# Altium integrated library HARTING DIN 41612 Type Q.IntLib: 23 symbols
Pins are listed as number, name and electrical type; pins without a type are passive.

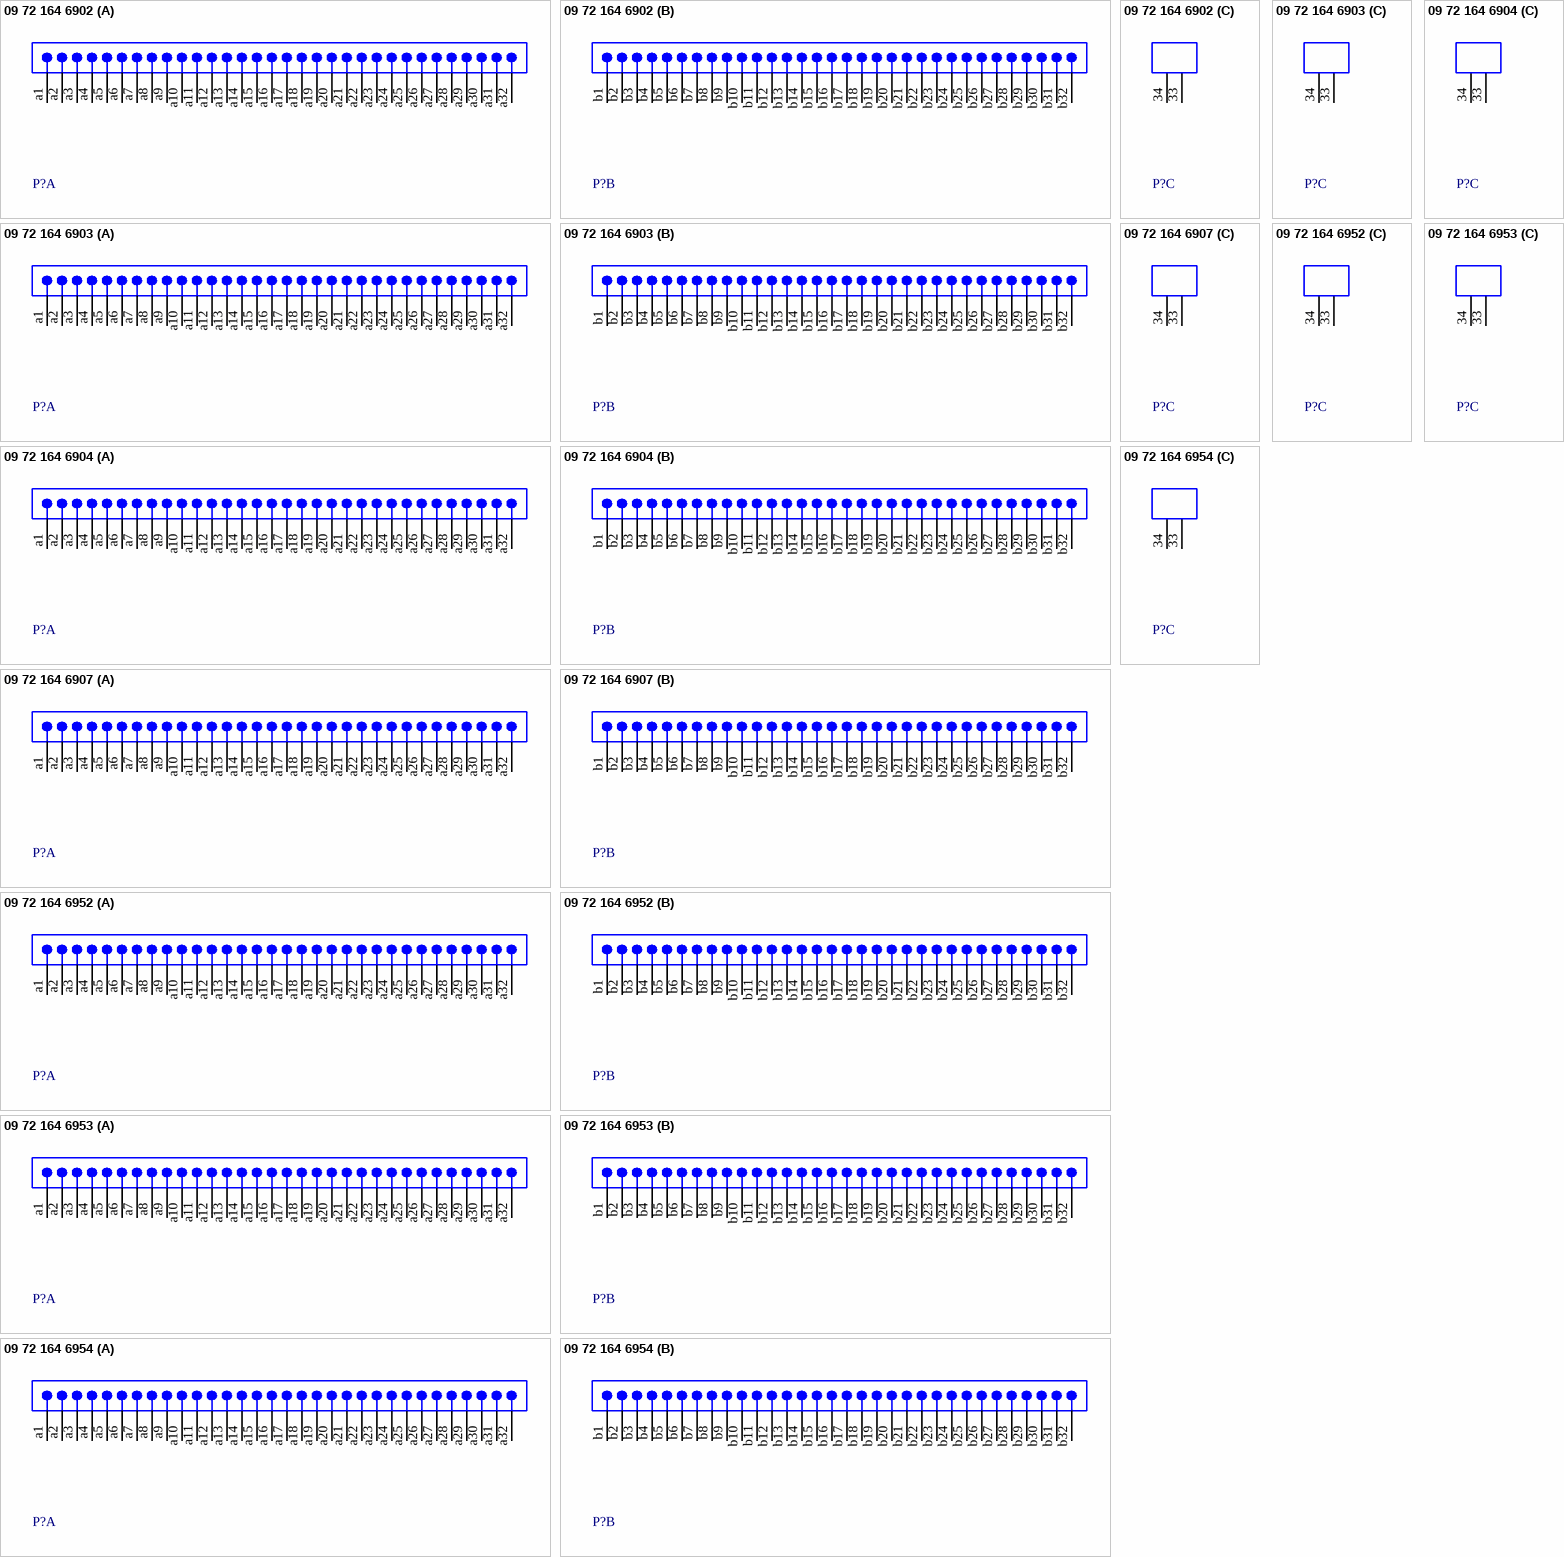
[diagram p0: symbols 09 72 164 6902 to 09 72 164 6954]

## 09 72 164 6902
designator P?
Eurocard DIN 41612, Type Q, 64 Position, Rows a+b, Performance level 2, Male, Lead 2.5 mm, Pitch 2.54 mm; DrillSize: Corresponds to nominal value.; Published: 6-Oct-2005; DatasheetDocument: 02-Jun-2003; PackageDocument: 18-May-2001; PackageReference: 0972164x902; Publisher: Altium Limited; ComponentLink1Description: Manufacturer Link; ComponentLink1URL: http://www.harting.com/; ComponentLink2Description: Packaging Specification; ComponentLink2URL: http://www.harkis.harting.com/_gds/pdf/TB_0972164x902_BL01_R29790.pdf
footprint 0972164x902 (Connector; DIN 41612, Type Q, Thru-Hole; Rows a+b, 64 Position; Vertical)
signal-integrity model DIN 41612
part A pins: a1, a2, a3, a4, a5, a6, a7, a8, a9, a10, a11, a12, a13, a14, a15, a16, a17, a18, a19, a20, a21, a22, a23, a24, a25, a26, a27, a28, a29, a30, a31, a32
part B pins: b1, b2, b3, b4, b5, b6, b7, b8, b9, b10, b11, b12, b13, b14, b15, b16, b17, b18, b19, b20, b21, b22, b23, b24, b25, b26, b27, b28, b29, b30, b31, b32
part C pins: 33 MH1 "Mounting Fixture", 34 MH2 "Mounting Fixture"

## 09 72 164 6903
designator P?
Eurocard DIN 41612, Type Q, 64 Position, Rows a+b, Performance level 2, Male, Lead 4.0 mm, Pitch 2.54 mm; DrillSize: Corresponds to nominal value.; Published: 6-Oct-2005; DatasheetDocument: 02-Jun-2003; PackageDocument: 18-May-2001; PackageReference: 0972164x903; Publisher: Altium Limited; ComponentLink1Description: Manufacturer Link; ComponentLink1URL: http://www.harting.com/; ComponentLink2Description: Packaging Specification; ComponentLink2URL: http://www.harkis.harting.com/_gds/pdf/TB_0972164x903_BL01_R29790.pdf
footprint 0972164x903 (Connector; DIN 41612, Type Q, Thru-Hole; Rows a+b, 64 Position; Vertical)
signal-integrity model DIN 41612
part A pins: a1, a2, a3, a4, a5, a6, a7, a8, a9, a10, a11, a12, a13, a14, a15, a16, a17, a18, a19, a20, a21, a22, a23, a24, a25, a26, a27, a28, a29, a30, a31, a32
part B pins: b1, b2, b3, b4, b5, b6, b7, b8, b9, b10, b11, b12, b13, b14, b15, b16, b17, b18, b19, b20, b21, b22, b23, b24, b25, b26, b27, b28, b29, b30, b31, b32
part C pins: 33 MH1 "Mounting Fixture", 34 MH2 "Mounting Fixture"

## 09 72 164 6904
designator P?
Eurocard DIN 41612, Type Q, 64 Position, Rows a+b, Performance level 2, Male, Lead 5.0 mm, Pitch 2.54 mm; DrillSize: Corresponds to nominal value.; Published: 6-Oct-2005; DatasheetDocument: 03-Jun-2003; PackageDocument: 23-May-2001; PackageReference: 0972164x904; Publisher: Altium Limited; ComponentLink1Description: Manufacturer Link; ComponentLink1URL: http://www.harting.com/; ComponentLink2Description: Packaging Specification; ComponentLink2URL: http://www.harkis.harting.com/_gds/pdf/TB_0972164x904_BL01_R29794.pdf
footprint 0972164x904 (Connector; DIN 41612, Type Q, Thru-Hole; Rows a+b, 64 Position; Vertical)
signal-integrity model DIN 41612
part A pins: a1, a2, a3, a4, a5, a6, a7, a8, a9, a10, a11, a12, a13, a14, a15, a16, a17, a18, a19, a20, a21, a22, a23, a24, a25, a26, a27, a28, a29, a30, a31, a32
part B pins: b1, b2, b3, b4, b5, b6, b7, b8, b9, b10, b11, b12, b13, b14, b15, b16, b17, b18, b19, b20, b21, b22, b23, b24, b25, b26, b27, b28, b29, b30, b31, b32
part C pins: 33 MH1 "Mounting Fixture", 34 MH2 "Mounting Fixture"

## 09 72 164 6907
designator P?
Eurocard DIN 41612, Type Q, 64 Position, Rows a+b, Performance level 2, Male, Lead 13.0 mm, Pitch 2.54 mm; DrillSize: Corresponds to nominal value.; Published: 6-Oct-2005; DatasheetDocument: 02-Jun-2003; PackageDocument: 17-May-2001; PackageReference: 0972164x907; Publisher: Altium Limited; ComponentLink1Description: Manufacturer Link; ComponentLink1URL: http://www.harting.com/; ComponentLink2Description: Packaging Specification; ComponentLink2URL: http://www.harkis.harting.com/_gds/pdf/TB_0972164x907_BL01_R29790.pdf
footprint 0972164x907 (Connector; DIN 41612, Type Q, Thru-Hole; Rows a+b, 64 Position; Vertical)
signal-integrity model DIN 41612
part A pins: a1, a2, a3, a4, a5, a6, a7, a8, a9, a10, a11, a12, a13, a14, a15, a16, a17, a18, a19, a20, a21, a22, a23, a24, a25, a26, a27, a28, a29, a30, a31, a32
part B pins: b1, b2, b3, b4, b5, b6, b7, b8, b9, b10, b11, b12, b13, b14, b15, b16, b17, b18, b19, b20, b21, b22, b23, b24, b25, b26, b27, b28, b29, b30, b31, b32
part C pins: 33 MH1 "Mounting Fixture", 34 MH2 "Mounting Fixture"

## 09 72 164 6952
designator P?
Eurocard DIN 41612, Type Q, 62+2 Position, Rows a+b, Performance level 2, Male, Lead 2.5 mm, Pitch 2.54 mm; Note: Two leading contacts at positions a1 & a32.; DrillSize: Corresponds to nominal value.; Published: 6-Oct-2005; DatasheetDocument: 02-Jun-2003; PackageReference: 0972164x952; Publisher: Altium Limited; ComponentLink1Description: Manufacturer Link; ComponentLink1URL: http://www.harting.com/
footprint 0972164x952 (Connector; DIN 41612, Type Q, Thru-Hole; Rows a+b, 64 Position; Vertical)
signal-integrity model DIN 41612
part A pins: a1, a2, a3, a4, a5, a6, a7, a8, a9, a10, a11, a12, a13, a14, a15, a16, a17, a18, a19, a20, a21, a22, a23, a24, a25, a26, a27, a28, a29, a30, a31, a32
part B pins: b1, b2, b3, b4, b5, b6, b7, b8, b9, b10, b11, b12, b13, b14, b15, b16, b17, b18, b19, b20, b21, b22, b23, b24, b25, b26, b27, b28, b29, b30, b31, b32
part C pins: 33 MH1 "Mounting Fixture", 34 MH2 "Mounting Fixture"

## 09 72 164 6953
designator P?
Eurocard DIN 41612, Type Q, 62+2 Position, Rows a+b, Performance level 2, Male, Lead 4.0 mm, Pitch 2.54 mm; Note: Two leading contacts at positions a1 & a32.; DrillSize: Corresponds to nominal value.; Published: 6-Oct-2005; DatasheetDocument: 02-Jun-2003; PackageReference: 0972164x953; Publisher: Altium Limited; ComponentLink1Description: Manufacturer Link; ComponentLink1URL: http://www.harting.com/
footprint 0972164x953 (Connector; DIN 41612, Type Q, Thru-Hole; Rows a+b, 64 Position; Vertical)
signal-integrity model DIN 41612
part A pins: a1, a2, a3, a4, a5, a6, a7, a8, a9, a10, a11, a12, a13, a14, a15, a16, a17, a18, a19, a20, a21, a22, a23, a24, a25, a26, a27, a28, a29, a30, a31, a32
part B pins: b1, b2, b3, b4, b5, b6, b7, b8, b9, b10, b11, b12, b13, b14, b15, b16, b17, b18, b19, b20, b21, b22, b23, b24, b25, b26, b27, b28, b29, b30, b31, b32
part C pins: 33 MH1 "Mounting Fixture", 34 MH2 "Mounting Fixture"

## 09 72 164 6954
designator P?
Eurocard DIN 41612, Type Q, 62+2 Position, Rows a+b, Performance level 2, Male, Lead 5.0 mm, Pitch 2.54 mm; Note: Two leading contacts at positions a1 & a32.; DrillSize: Corresponds to nominal value.; Published: 6-Oct-2005; DatasheetDocument: 03-Jun-2003; PackageReference: 0972164x954; Publisher: Altium Limited; ComponentLink1Description: Manufacturer Link; ComponentLink1URL: http://www.harting.com/
footprint 0972164x954 (Connector; DIN 41612, Type Q, Thru-Hole; Rows a+b, 64 Position; Vertical)
signal-integrity model DIN 41612
part A pins: a1, a2, a3, a4, a5, a6, a7, a8, a9, a10, a11, a12, a13, a14, a15, a16, a17, a18, a19, a20, a21, a22, a23, a24, a25, a26, a27, a28, a29, a30, a31, a32
part B pins: b1, b2, b3, b4, b5, b6, b7, b8, b9, b10, b11, b12, b13, b14, b15, b16, b17, b18, b19, b20, b21, b22, b23, b24, b25, b26, b27, b28, b29, b30, b31, b32
part C pins: 33 MH1 "Mounting Fixture", 34 MH2 "Mounting Fixture"

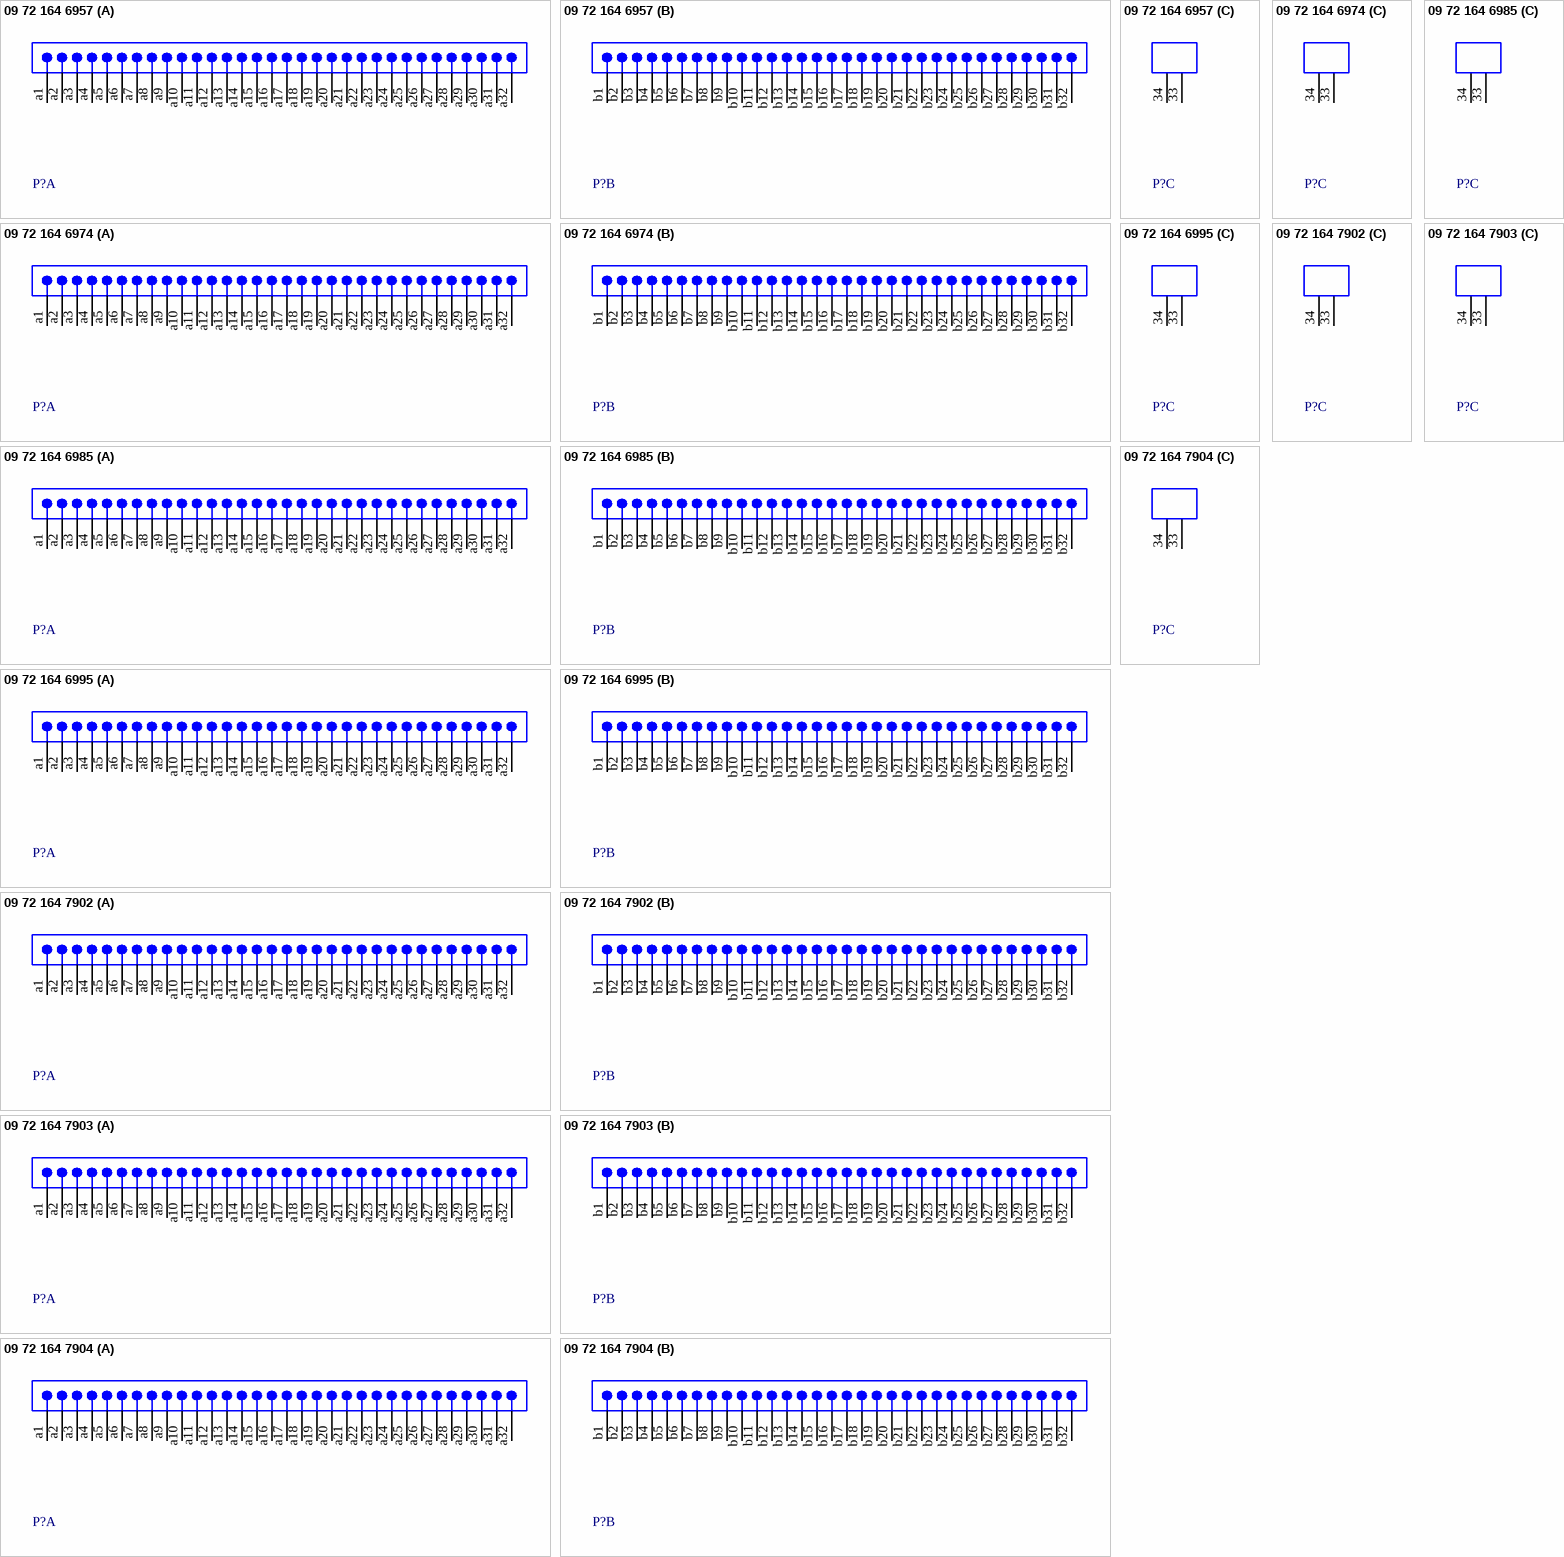
[diagram p1: symbols 09 72 164 6957 to 09 72 164 7904]

## 09 72 164 6957
designator P?
Eurocard DIN 41612, Type Q, 62+2 Position, Rows a+b, Performance level 2, Male, Lead 13.0 mm, Pitch 2.54 mm; Note: Two leading contacts at positions a1 & a32.; DrillSize: Corresponds to nominal value.; Published: 6-Oct-2005; DatasheetDocument: 02-Jun-2003; PackageReference: 0972164x957; Publisher: Altium Limited; ComponentLink1Description: Manufacturer Link; ComponentLink1URL: http://www.harting.com/
footprint 0972164x957 (Connector; DIN 41612, Type Q, Thru-Hole; Rows a+b, 64 Position; Vertical)
signal-integrity model DIN 41612
part A pins: a1, a2, a3, a4, a5, a6, a7, a8, a9, a10, a11, a12, a13, a14, a15, a16, a17, a18, a19, a20, a21, a22, a23, a24, a25, a26, a27, a28, a29, a30, a31, a32
part B pins: b1, b2, b3, b4, b5, b6, b7, b8, b9, b10, b11, b12, b13, b14, b15, b16, b17, b18, b19, b20, b21, b22, b23, b24, b25, b26, b27, b28, b29, b30, b31, b32
part C pins: 33 MH1 "Mounting Fixture", 34 MH2 "Mounting Fixture"

## 09 72 164 6974
designator P?
Eurocard DIN 41612, Type Q, 64 Position, Rows a+b, Performance level 2, Male, Lead 13.0 mm, Pitch 2.54 mm; DrillSize: Corresponds to nominal value.; Published: 6-Oct-2005; DatasheetDocument: 03-Jun-2003; PackageDocument: 23-May-2001; PackageReference: 0972164x974; Publisher: Altium Limited; ComponentLink1Description: Manufacturer Link; ComponentLink1URL: http://www.harting.com/; ComponentLink2Description: Packaging Specification; ComponentLink2URL: http://www.harkis.harting.com/_gds/pdf/TB_0972164x974_BL01_R29794.pdf
footprint 0972164x974 (Connector; DIN 41612, Type Q, Thru-Hole; Rows a+b, 64 Position; Vertical)
signal-integrity model DIN 41612
part A pins: a1, a2, a3, a4, a5, a6, a7, a8, a9, a10, a11, a12, a13, a14, a15, a16, a17, a18, a19, a20, a21, a22, a23, a24, a25, a26, a27, a28, a29, a30, a31, a32
part B pins: b1, b2, b3, b4, b5, b6, b7, b8, b9, b10, b11, b12, b13, b14, b15, b16, b17, b18, b19, b20, b21, b22, b23, b24, b25, b26, b27, b28, b29, b30, b31, b32
part C pins: 33 MH1 "Mounting Fixture", 34 MH2 "Mounting Fixture"

## 09 72 164 6985
designator P?
Eurocard DIN 41612, Type Q, 64 Position, Rows a+b, Performance level 2, Male, Lead 13.0 mm, Pitch 2.54 mm; DrillSize: Corresponds to nominal value.; Published: 6-Oct-2005; DatasheetDocument: 03-Jun-2003; PackageDocument: 06-Aug-2002; PackageReference: 0972164x985; Publisher: Altium Limited; ComponentLink1Description: Manufacturer Link; ComponentLink1URL: http://www.harting.com/; ComponentLink2Description: Packaging Specification; ComponentLink2URL: http://www.harkis.harting.com/_gds/pdf/TB_0972164x985_BL01_R31169.pdf
footprint 0972164x985 (Connector; DIN 41612, Type Q, Thru-Hole; Rows a+b, 64 Position; Vertical)
signal-integrity model DIN 41612
part A pins: a1, a2, a3, a4, a5, a6, a7, a8, a9, a10, a11, a12, a13, a14, a15, a16, a17, a18, a19, a20, a21, a22, a23, a24, a25, a26, a27, a28, a29, a30, a31, a32
part B pins: b1, b2, b3, b4, b5, b6, b7, b8, b9, b10, b11, b12, b13, b14, b15, b16, b17, b18, b19, b20, b21, b22, b23, b24, b25, b26, b27, b28, b29, b30, b31, b32
part C pins: 33 MH1 "Mounting Fixture", 34 MH2 "Mounting Fixture"

## 09 72 164 6995
designator P?
Eurocard DIN 41612, Type Q, 62+2 Position, Rows a+b, Performance level 2, Male, Lead 13.0 mm, Pitch 2.54 mm; Note: Two leading contacts at positions a1 & a32.; DrillSize: Corresponds to nominal value.; Published: 6-Oct-2005; DatasheetDocument: 03-Jun-2003; PackageReference: 0972164x995; Publisher: Altium Limited; ComponentLink1Description: Manufacturer Link; ComponentLink1URL: http://www.harting.com/
footprint 0972164x995 (Connector; DIN 41612, Type Q, Thru-Hole; Rows a+b, 64 Position; Vertical)
signal-integrity model DIN 41612
part A pins: a1, a2, a3, a4, a5, a6, a7, a8, a9, a10, a11, a12, a13, a14, a15, a16, a17, a18, a19, a20, a21, a22, a23, a24, a25, a26, a27, a28, a29, a30, a31, a32
part B pins: b1, b2, b3, b4, b5, b6, b7, b8, b9, b10, b11, b12, b13, b14, b15, b16, b17, b18, b19, b20, b21, b22, b23, b24, b25, b26, b27, b28, b29, b30, b31, b32
part C pins: 33 MH1 "Mounting Fixture", 34 MH2 "Mounting Fixture"

## 09 72 164 7902
designator P?
Eurocard DIN 41612, Type Q, 64 Position, Rows a+b, Performance level 3, Male, Lead 2.5 mm, Pitch 2.54 mm; DrillSize: Corresponds to nominal value.; Published: 6-Oct-2005; DatasheetDocument: 02-Jun-2003; PackageDocument: 18-May-2001; PackageReference: 0972164x902; Publisher: Altium Limited; ComponentLink1Description: Manufacturer Link; ComponentLink1URL: http://www.harting.com/; ComponentLink2Description: Packaging Specification; ComponentLink2URL: http://www.harkis.harting.com/_gds/pdf/TB_0972164x902_BL01_R29790.pdf
footprint 0972164x902 (Connector; DIN 41612, Type Q, Thru-Hole; Rows a+b, 64 Position; Vertical)
signal-integrity model DIN 41612
part A pins: a1, a2, a3, a4, a5, a6, a7, a8, a9, a10, a11, a12, a13, a14, a15, a16, a17, a18, a19, a20, a21, a22, a23, a24, a25, a26, a27, a28, a29, a30, a31, a32
part B pins: b1, b2, b3, b4, b5, b6, b7, b8, b9, b10, b11, b12, b13, b14, b15, b16, b17, b18, b19, b20, b21, b22, b23, b24, b25, b26, b27, b28, b29, b30, b31, b32
part C pins: 33 MH1 "Mounting Fixture", 34 MH2 "Mounting Fixture"

## 09 72 164 7903
designator P?
Eurocard DIN 41612, Type Q, 64 Position, Rows a+b, Performance level 3, Male, Lead 4.0 mm, Pitch 2.54 mm; DrillSize: Corresponds to nominal value.; Published: 6-Oct-2005; DatasheetDocument: 02-Jun-2003; PackageDocument: 18-May-2001; PackageReference: 0972164x903; Publisher: Altium Limited; ComponentLink1Description: Manufacturer Link; ComponentLink1URL: http://www.harting.com/; ComponentLink2Description: Packaging Specification; ComponentLink2URL: http://www.harkis.harting.com/_gds/pdf/TB_0972164x903_BL01_R29790.pdf
footprint 0972164x903 (Connector; DIN 41612, Type Q, Thru-Hole; Rows a+b, 64 Position; Vertical)
signal-integrity model DIN 41612
part A pins: a1, a2, a3, a4, a5, a6, a7, a8, a9, a10, a11, a12, a13, a14, a15, a16, a17, a18, a19, a20, a21, a22, a23, a24, a25, a26, a27, a28, a29, a30, a31, a32
part B pins: b1, b2, b3, b4, b5, b6, b7, b8, b9, b10, b11, b12, b13, b14, b15, b16, b17, b18, b19, b20, b21, b22, b23, b24, b25, b26, b27, b28, b29, b30, b31, b32
part C pins: 33 MH1 "Mounting Fixture", 34 MH2 "Mounting Fixture"

## 09 72 164 7904
designator P?
Eurocard DIN 41612, Type Q, 64 Position, Rows a+b, Performance level 3, Male, Lead 5.0 mm, Pitch 2.54 mm; DrillSize: Corresponds to nominal value.; Published: 6-Oct-2005; DatasheetDocument: 03-Jun-2003; PackageDocument: 23-May-2001; PackageReference: 0972164x904; Publisher: Altium Limited; ComponentLink1Description: Manufacturer Link; ComponentLink1URL: http://www.harting.com/; ComponentLink2Description: Packaging Specification; ComponentLink2URL: http://www.harkis.harting.com/_gds/pdf/TB_0972164x904_BL01_R29794.pdf
footprint 0972164x904 (Connector; DIN 41612, Type Q, Thru-Hole; Rows a+b, 64 Position; Vertical)
signal-integrity model DIN 41612
part A pins: a1, a2, a3, a4, a5, a6, a7, a8, a9, a10, a11, a12, a13, a14, a15, a16, a17, a18, a19, a20, a21, a22, a23, a24, a25, a26, a27, a28, a29, a30, a31, a32
part B pins: b1, b2, b3, b4, b5, b6, b7, b8, b9, b10, b11, b12, b13, b14, b15, b16, b17, b18, b19, b20, b21, b22, b23, b24, b25, b26, b27, b28, b29, b30, b31, b32
part C pins: 33 MH1 "Mounting Fixture", 34 MH2 "Mounting Fixture"

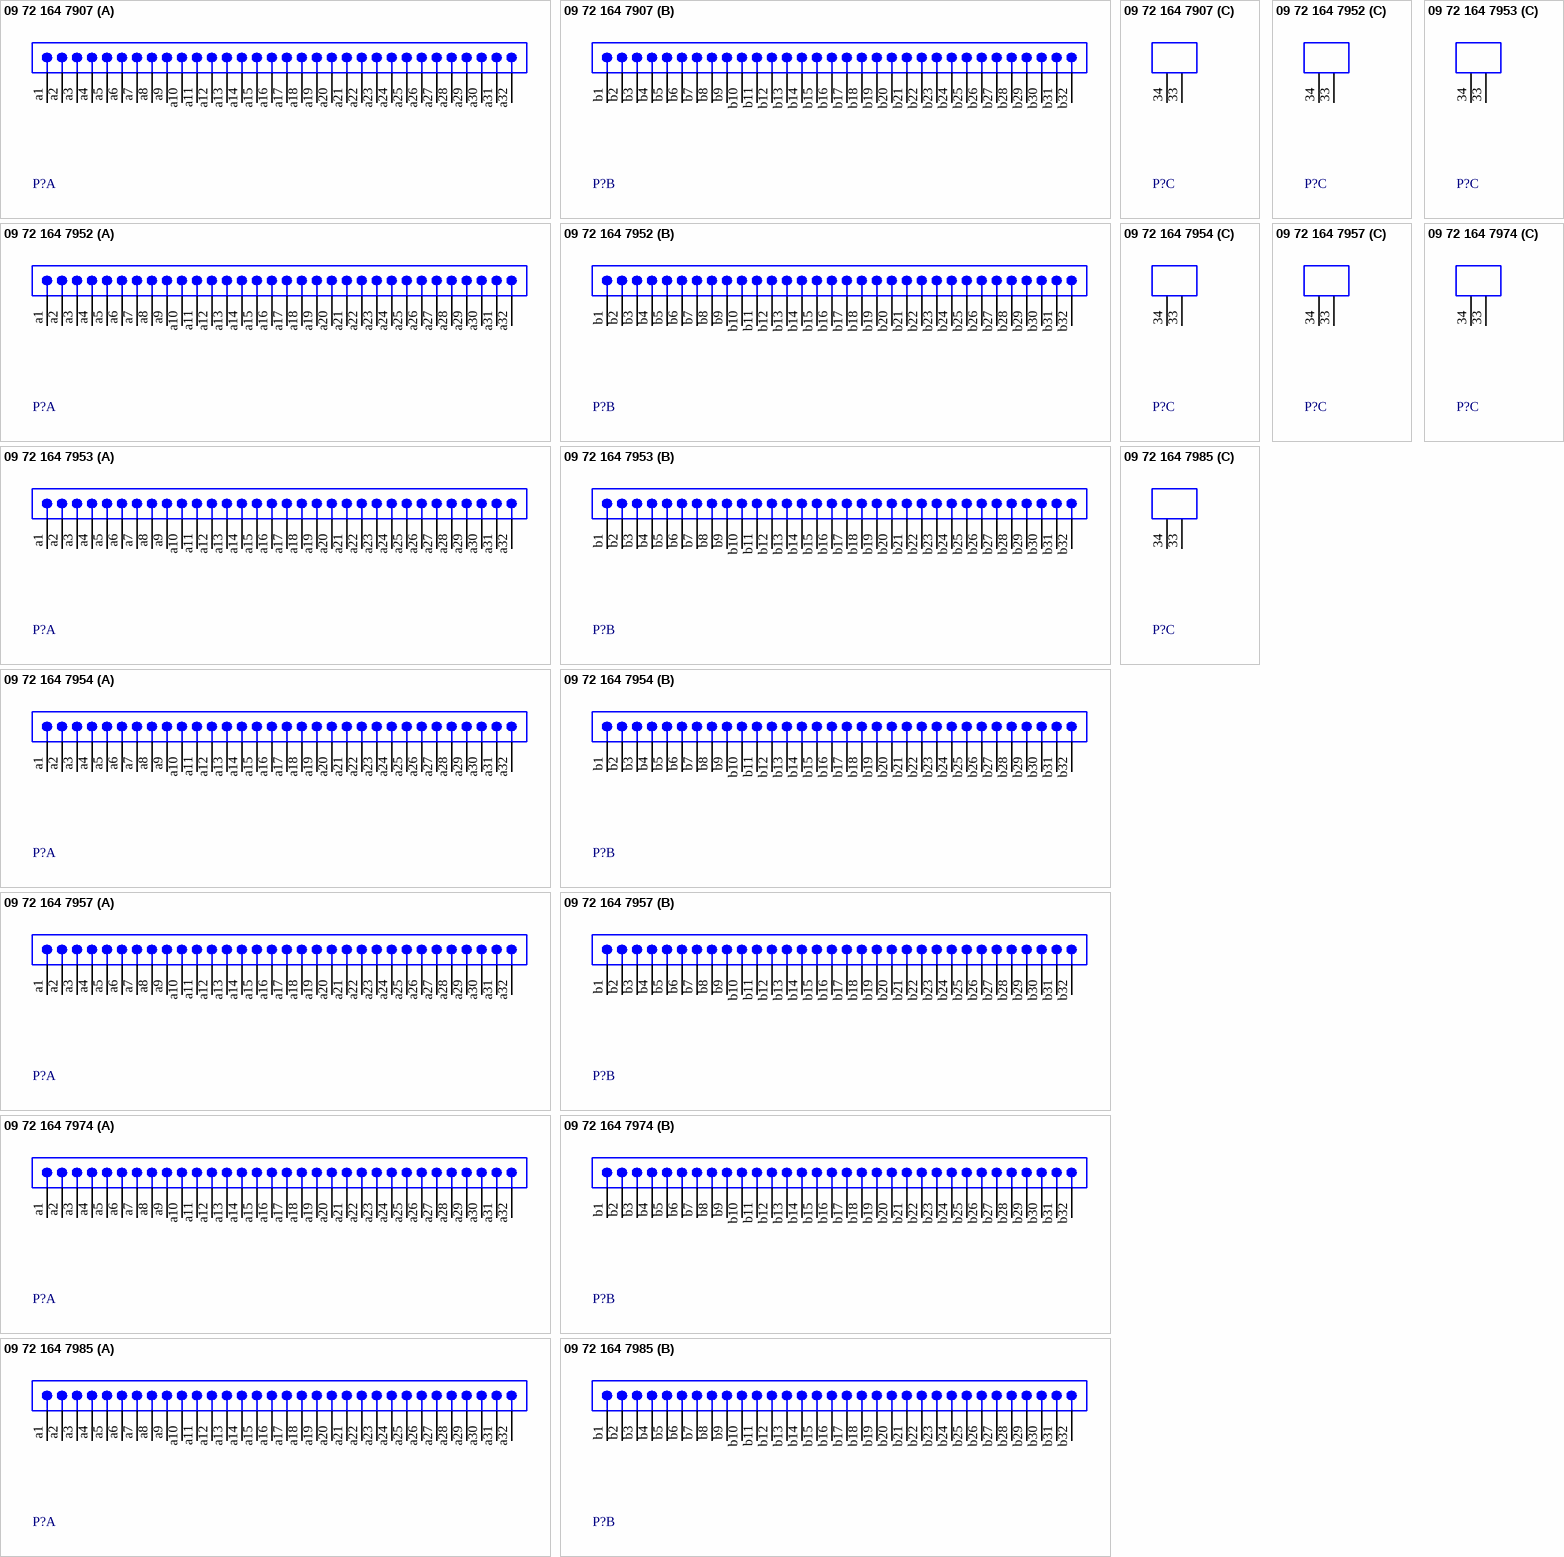
[diagram p2: symbols 09 72 164 7907 to 09 72 164 7985]

## 09 72 164 7907
designator P?
Eurocard DIN 41612, Type Q, 64 Position, Rows a+b, Performance level 3, Male, Lead 13.0 mm, Pitch 2.54 mm; DrillSize: Corresponds to nominal value.; Published: 6-Oct-2005; DatasheetDocument: 02-Jun-2003; PackageDocument: 17-May-2001; PackageReference: 0972164x907; Publisher: Altium Limited; ComponentLink1Description: Manufacturer Link; ComponentLink1URL: http://www.harting.com/; ComponentLink2Description: Packaging Specification; ComponentLink2URL: http://www.harkis.harting.com/_gds/pdf/TB_0972164x907_BL01_R29790.pdf
footprint 0972164x907 (Connector; DIN 41612, Type Q, Thru-Hole; Rows a+b, 64 Position; Vertical)
signal-integrity model DIN 41612
part A pins: a1, a2, a3, a4, a5, a6, a7, a8, a9, a10, a11, a12, a13, a14, a15, a16, a17, a18, a19, a20, a21, a22, a23, a24, a25, a26, a27, a28, a29, a30, a31, a32
part B pins: b1, b2, b3, b4, b5, b6, b7, b8, b9, b10, b11, b12, b13, b14, b15, b16, b17, b18, b19, b20, b21, b22, b23, b24, b25, b26, b27, b28, b29, b30, b31, b32
part C pins: 33 MH1 "Mounting Fixture", 34 MH2 "Mounting Fixture"

## 09 72 164 7952
designator P?
Eurocard DIN 41612, Type Q, 62+2 Position, Rows a+b, Performance level 3, Male, Lead 2.5 mm, Pitch 2.54 mm; Note: Two leading contacts at positions a1 & a32.; DrillSize: Corresponds to nominal value.; Published: 6-Oct-2005; DatasheetDocument: 02-Jun-2003; PackageReference: 0972164x952; Publisher: Altium Limited; ComponentLink1Description: Manufacturer Link; ComponentLink1URL: http://www.harting.com/
footprint 0972164x952 (Connector; DIN 41612, Type Q, Thru-Hole; Rows a+b, 64 Position; Vertical)
signal-integrity model DIN 41612
part A pins: a1, a2, a3, a4, a5, a6, a7, a8, a9, a10, a11, a12, a13, a14, a15, a16, a17, a18, a19, a20, a21, a22, a23, a24, a25, a26, a27, a28, a29, a30, a31, a32
part B pins: b1, b2, b3, b4, b5, b6, b7, b8, b9, b10, b11, b12, b13, b14, b15, b16, b17, b18, b19, b20, b21, b22, b23, b24, b25, b26, b27, b28, b29, b30, b31, b32
part C pins: 33 MH1 "Mounting Fixture", 34 MH2 "Mounting Fixture"

## 09 72 164 7953
designator P?
Eurocard DIN 41612, Type Q, 62+2 Position, Rows a+b, Performance level 3, Male, Lead 4.0 mm, Pitch 2.54 mm; Note: Two leading contacts at positions a1 & a32.; DrillSize: Corresponds to nominal value.; Published: 6-Oct-2005; DatasheetDocument: 02-Jun-2003; PackageReference: 0972164x953; Publisher: Altium Limited; ComponentLink1Description: Manufacturer Link; ComponentLink1URL: http://www.harting.com/
footprint 0972164x953 (Connector; DIN 41612, Type Q, Thru-Hole; Rows a+b, 64 Position; Vertical)
signal-integrity model DIN 41612
part A pins: a1, a2, a3, a4, a5, a6, a7, a8, a9, a10, a11, a12, a13, a14, a15, a16, a17, a18, a19, a20, a21, a22, a23, a24, a25, a26, a27, a28, a29, a30, a31, a32
part B pins: b1, b2, b3, b4, b5, b6, b7, b8, b9, b10, b11, b12, b13, b14, b15, b16, b17, b18, b19, b20, b21, b22, b23, b24, b25, b26, b27, b28, b29, b30, b31, b32
part C pins: 33 MH1 "Mounting Fixture", 34 MH2 "Mounting Fixture"

## 09 72 164 7954
designator P?
Eurocard DIN 41612, Type Q, 62+2 Position, Rows a+b, Performance level 3, Male, Lead 5.0 mm, Pitch 2.54 mm; Note: Two leading contacts at positions a1 & a32.; DrillSize: Corresponds to nominal value.; Published: 6-Oct-2005; DatasheetDocument: 03-Jun-2003; PackageReference: 0972164x954; Publisher: Altium Limited; ComponentLink1Description: Manufacturer Link; ComponentLink1URL: http://www.harting.com/
footprint 0972164x954 (Connector; DIN 41612, Type Q, Thru-Hole; Rows a+b, 64 Position; Vertical)
signal-integrity model DIN 41612
part A pins: a1, a2, a3, a4, a5, a6, a7, a8, a9, a10, a11, a12, a13, a14, a15, a16, a17, a18, a19, a20, a21, a22, a23, a24, a25, a26, a27, a28, a29, a30, a31, a32
part B pins: b1, b2, b3, b4, b5, b6, b7, b8, b9, b10, b11, b12, b13, b14, b15, b16, b17, b18, b19, b20, b21, b22, b23, b24, b25, b26, b27, b28, b29, b30, b31, b32
part C pins: 33 MH1 "Mounting Fixture", 34 MH2 "Mounting Fixture"

## 09 72 164 7957
designator P?
Eurocard DIN 41612, Type Q, 62+2 Position, Rows a+b, Performance level 3, Male, Lead 13.0 mm, Pitch 2.54 mm; Note: Two leading contacts at positions a1 & a32.; DrillSize: Corresponds to nominal value.; Published: 6-Oct-2005; DatasheetDocument: 02-Jun-2003; PackageReference: 0972164x957; Publisher: Altium Limited; ComponentLink1Description: Manufacturer Link; ComponentLink1URL: http://www.harting.com/
footprint 0972164x957 (Connector; DIN 41612, Type Q, Thru-Hole; Rows a+b, 64 Position; Vertical)
signal-integrity model DIN 41612
part A pins: a1, a2, a3, a4, a5, a6, a7, a8, a9, a10, a11, a12, a13, a14, a15, a16, a17, a18, a19, a20, a21, a22, a23, a24, a25, a26, a27, a28, a29, a30, a31, a32
part B pins: b1, b2, b3, b4, b5, b6, b7, b8, b9, b10, b11, b12, b13, b14, b15, b16, b17, b18, b19, b20, b21, b22, b23, b24, b25, b26, b27, b28, b29, b30, b31, b32
part C pins: 33 MH1 "Mounting Fixture", 34 MH2 "Mounting Fixture"

## 09 72 164 7974
designator P?
Eurocard DIN 41612, Type Q, 64 Position, Rows a+b, Performance level 3, Male, Lead 13.0 mm, Pitch 2.54 mm; DrillSize: Corresponds to nominal value.; Published: 6-Oct-2005; DatasheetDocument: 03-Jun-2003; PackageDocument: 23-May-2001; PackageReference: 0972164x974; Publisher: Altium Limited; ComponentLink1Description: Manufacturer Link; ComponentLink1URL: http://www.harting.com/; ComponentLink2Description: Packaging Specification; ComponentLink2URL: http://www.harkis.harting.com/_gds/pdf/TB_0972164x974_BL01_R29794.pdf
footprint 0972164x974 (Connector; DIN 41612, Type Q, Thru-Hole; Rows a+b, 64 Position; Vertical)
signal-integrity model DIN 41612
part A pins: a1, a2, a3, a4, a5, a6, a7, a8, a9, a10, a11, a12, a13, a14, a15, a16, a17, a18, a19, a20, a21, a22, a23, a24, a25, a26, a27, a28, a29, a30, a31, a32
part B pins: b1, b2, b3, b4, b5, b6, b7, b8, b9, b10, b11, b12, b13, b14, b15, b16, b17, b18, b19, b20, b21, b22, b23, b24, b25, b26, b27, b28, b29, b30, b31, b32
part C pins: 33 MH1 "Mounting Fixture", 34 MH2 "Mounting Fixture"

## 09 72 164 7985
designator P?
Eurocard DIN 41612, Type Q, 64 Position, Rows a+b, Performance level 3, Male, Lead 13.0 mm, Pitch 2.54 mm; DrillSize: Corresponds to nominal value.; Published: 6-Oct-2005; DatasheetDocument: 03-Jun-2003; PackageDocument: 06-Aug-2002; PackageReference: 0972164x985; Publisher: Altium Limited; ComponentLink1Description: Manufacturer Link; ComponentLink1URL: http://www.harting.com/; ComponentLink2Description: Packaging Specification; ComponentLink2URL: http://www.harkis.harting.com/_gds/pdf/TB_0972164x985_BL01_R31169.pdf
footprint 0972164x985 (Connector; DIN 41612, Type Q, Thru-Hole; Rows a+b, 64 Position; Vertical)
signal-integrity model DIN 41612
part A pins: a1, a2, a3, a4, a5, a6, a7, a8, a9, a10, a11, a12, a13, a14, a15, a16, a17, a18, a19, a20, a21, a22, a23, a24, a25, a26, a27, a28, a29, a30, a31, a32
part B pins: b1, b2, b3, b4, b5, b6, b7, b8, b9, b10, b11, b12, b13, b14, b15, b16, b17, b18, b19, b20, b21, b22, b23, b24, b25, b26, b27, b28, b29, b30, b31, b32
part C pins: 33 MH1 "Mounting Fixture", 34 MH2 "Mounting Fixture"

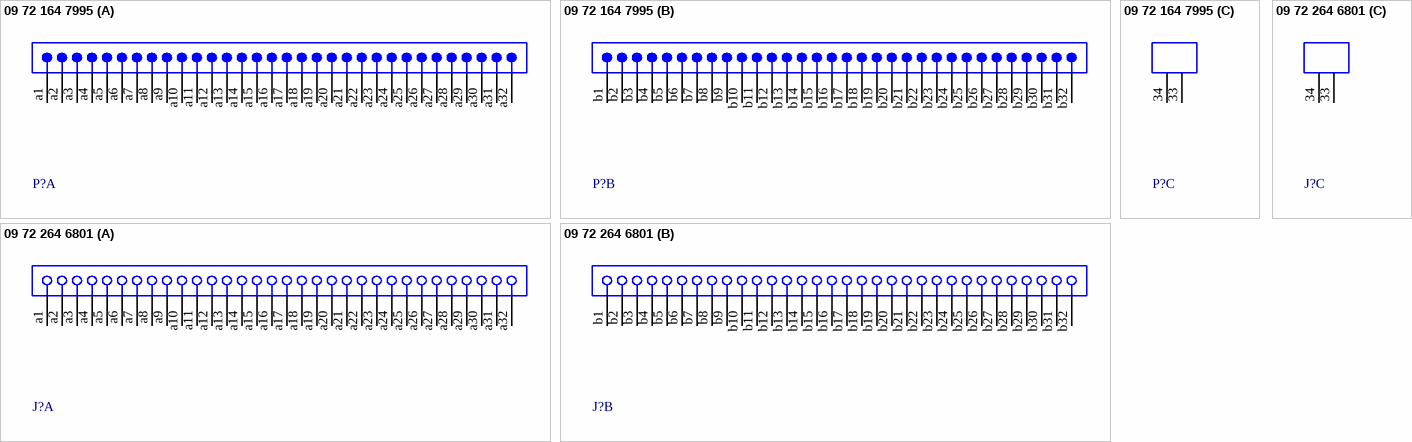
[diagram p3: symbols 09 72 164 7995 to 09 72 264 6801]

## 09 72 164 7995
designator P?
Eurocard DIN 41612, Type Q, 62+2 Position, Rows a+b, Performance level 3, Male, Lead 13.0 mm, Pitch 2.54 mm; Note: Two leading contacts at positions a1 & a32.; DrillSize: Corresponds to nominal value.; Published: 6-Oct-2005; DatasheetDocument: 03-Jun-2003; PackageReference: 0972164x995; Publisher: Altium Limited; ComponentLink1Description: Manufacturer Link; ComponentLink1URL: http://www.harting.com/
footprint 0972164x995 (Connector; DIN 41612, Type Q, Thru-Hole; Rows a+b, 64 Position; Vertical)
signal-integrity model DIN 41612
part A pins: a1, a2, a3, a4, a5, a6, a7, a8, a9, a10, a11, a12, a13, a14, a15, a16, a17, a18, a19, a20, a21, a22, a23, a24, a25, a26, a27, a28, a29, a30, a31, a32
part B pins: b1, b2, b3, b4, b5, b6, b7, b8, b9, b10, b11, b12, b13, b14, b15, b16, b17, b18, b19, b20, b21, b22, b23, b24, b25, b26, b27, b28, b29, b30, b31, b32
part C pins: 33 MH1 "Mounting Fixture", 34 MH2 "Mounting Fixture"

## 09 72 264 6801
designator J?
Eurocard DIN 41612, Type Q, 64 Position, Rows a+b, Performance level 2, Female, Lead 3.0 mm, Pitch 2.54 mm; DrillSize: Corresponds to nominal value.; Published: 6-Oct-2005; DatasheetDocument: 02-Jun-2003; PackageDocument: 25-Feb-2000; PackageReference: 0972264x801; Publisher: Altium Limited; ComponentLink1Description: Manufacturer Link; ComponentLink1URL: http://www.harting.com/; ComponentLink2Description: Packaging Specification; ComponentLink2URL: http://www.harkis.harting.com/_gds/pdf/TB_0972264x801_BL01_R27592.pdf
footprint 0972264x801 (Connector; DIN 41612, Type Q, Thru-Hole; Rows a+b, 64 Position; Right Angle)
signal-integrity model DIN 41612
part A pins: a1, a2, a3, a4, a5, a6, a7, a8, a9, a10, a11, a12, a13, a14, a15, a16, a17, a18, a19, a20, a21, a22, a23, a24, a25, a26, a27, a28, a29, a30, a31, a32
part B pins: b1, b2, b3, b4, b5, b6, b7, b8, b9, b10, b11, b12, b13, b14, b15, b16, b17, b18, b19, b20, b21, b22, b23, b24, b25, b26, b27, b28, b29, b30, b31, b32
part C pins: 33 MH1 "Mounting Fixture", 34 MH2 "Mounting Fixture"